# Altium schematic symbol library Touch_Sensor.SchLib: 1 symbol
Pins are listed as number, name and electrical type; pins without a type are passive.

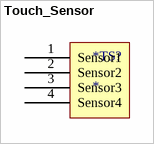
[diagram p0: symbol Touch_Sensor]

## Touch_Sensor
designator *TS?
4x Touch Sensor
footprint PCBComponent_1
pins: 1 Sensor1, 2 Sensor2, 3 Sensor3, 4 Sensor4